# Altium footprint library DISPLAYTECH_204G CC BC-3LP.PcbLib: 1 footprints
Each footprint in its own frame and in the unit in brackets; x right, y up, seen from the top. Pads: shape width x height; smd on the part's side, far side on the other; paste and mask are expansions set on the pad; w line width, h text height; cw(c..) or ccw(c..) is an arc to the next point about the centre after c.
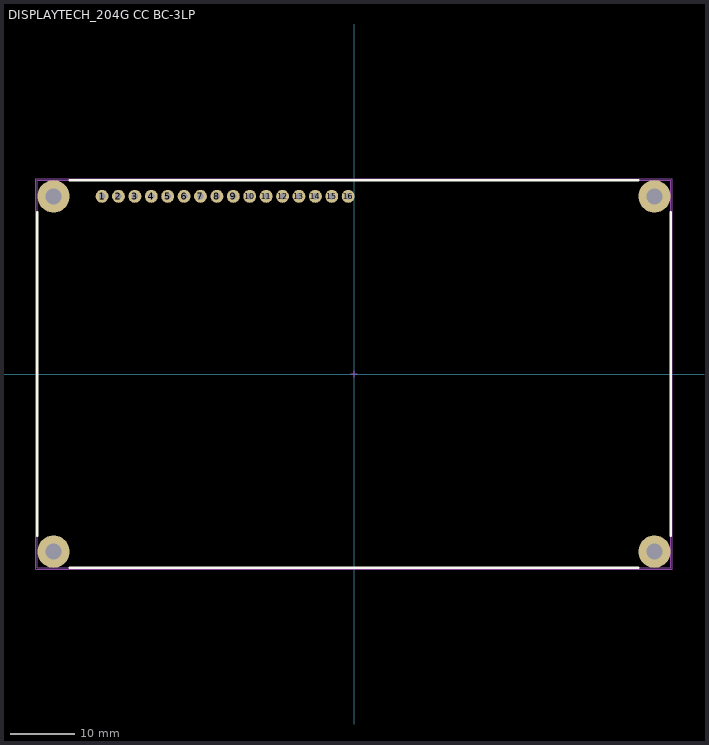
[diagram p0: the footprint, top view; thin cyan lines are the x and y axes]

## DISPLAYTECH_204G CC BC-3LP [mm]
height 99
pads (20):
  round 2 hole 1: 1(-39,27.5) 2(-36.46,27.5) 3(-33.92,27.5) 4(-31.38,27.5) 5(-28.84,27.5) 6(-26.3,27.5) 7(-23.76,27.5) 8(-21.22,27.5) 9(-18.68,27.5) 10(-16.14,27.5) 11(-13.6,27.5) 12(-11.06,27.5) 13(-8.52,27.5) 14(-5.98,27.5) 15(-3.44,27.5) 16(-0.9,27.5)
  round 5 hole 2.5: ""(-46.5,-27.5) ""(-46.5,27.5) ""(46.5,-27.5) ""(46.5,27.5)
Top Overlay:
  lines w0.4: -49,-25 -49,25 ; -44,-30 44,-30 ; -44,30 44,30 ; 49,-25 49,25
Mechanical 13:
  lines w0.1: -49,-30 -49,30 49,30 49,-30 -49,-30
Mechanical 15:
  lines w0.05: -49.25,-30.25 -49.25,30.25 49.25,30.25 49.25,-30.25 -49.25,-30.25
  lines w0.1: -0.5,0 0.5,0 ; 0,-0.5 0,0.5
3D body "DISPLAYTECH_204G CC BC-3LP.step": height 16.54, standoff -3, extent -49,-29.96 49,30.04